# EAGLE library part STA550/575 (library Audio-Power-amlifier V.2.0)
STA575 100+100W STEREO POWER AMPLIFIER STA550 70+70W STEREO POWER AMPLIFIER
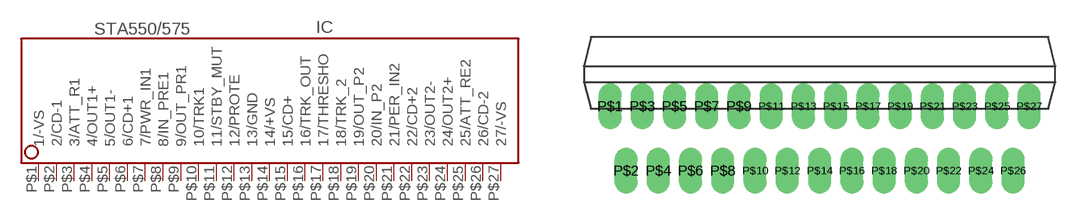
[diagram p189: symbol with the pads of FLEXIWATT27; footprint FLEXIWATT27]

Designator prefix IC

## STA550/575  [FLEXIWATT27]
P$1  1/-VS  pwr
P$2  2/CD-1  pwr
P$3  3/ATT_R1
P$4  4/OUT1+  out
P$5  5/OUT1-  out
P$6  6/CD+1  pwr
P$7  7/PWR_IN1  in
P$8  8/IN_PRE1  in
P$9  9/OUT_PR1  out
P$10  10/TRK1  in
P$11  11/STBY_MUT  in
P$12  12/PROTE
P$13  13/GND  pwr
P$14  14/+VS  pwr
P$15  15/CD+  pwr
P$16  16/TRK_OUT  out
P$17  17/THRESHO  in
P$18  18/TRK_2  in
P$19  19/OUT_P2  out
P$20  20/IN_P2  in
P$21  21/PER_IN2  in
P$22  22/CD+2  pwr
P$23  23/OUT2-  out
P$24  24/OUT2+  out
P$25  25/ATT_RE2
P$26  26/CD-2  pwr
P$27  27/-VS  pwr

## Footprint FLEXIWATT27 (pad centres in mm)
Flexiwatt27
drill 0.7 pad 1.422 long: P$1 -13,0; P$2 -12,-4; P$3 -11,0; P$4 -10,-4; P$5 -9,0; P$6 -8,-4; P$7 -7,0; P$8 -6,-4; P$9 -5,0; P$10 -4,-4; P$11 -3,0; P$12 -2,-4; P$13 -1,0; P$14 0,-4; P$15 1,0; P$16 2,-4; P$17 3,0; P$18 4,-4; P$19 5,0; P$20 6,-4; P$21 7,0; P$22 8,-4; P$23 9,0; P$24 10,-4; P$25 11,0; P$26 12,-4; P$27 13,0